# Altium schematic symbol library SchLib.SchLib: 25 symbols
Pins are listed as number, name and electrical type; pins without a type are passive.

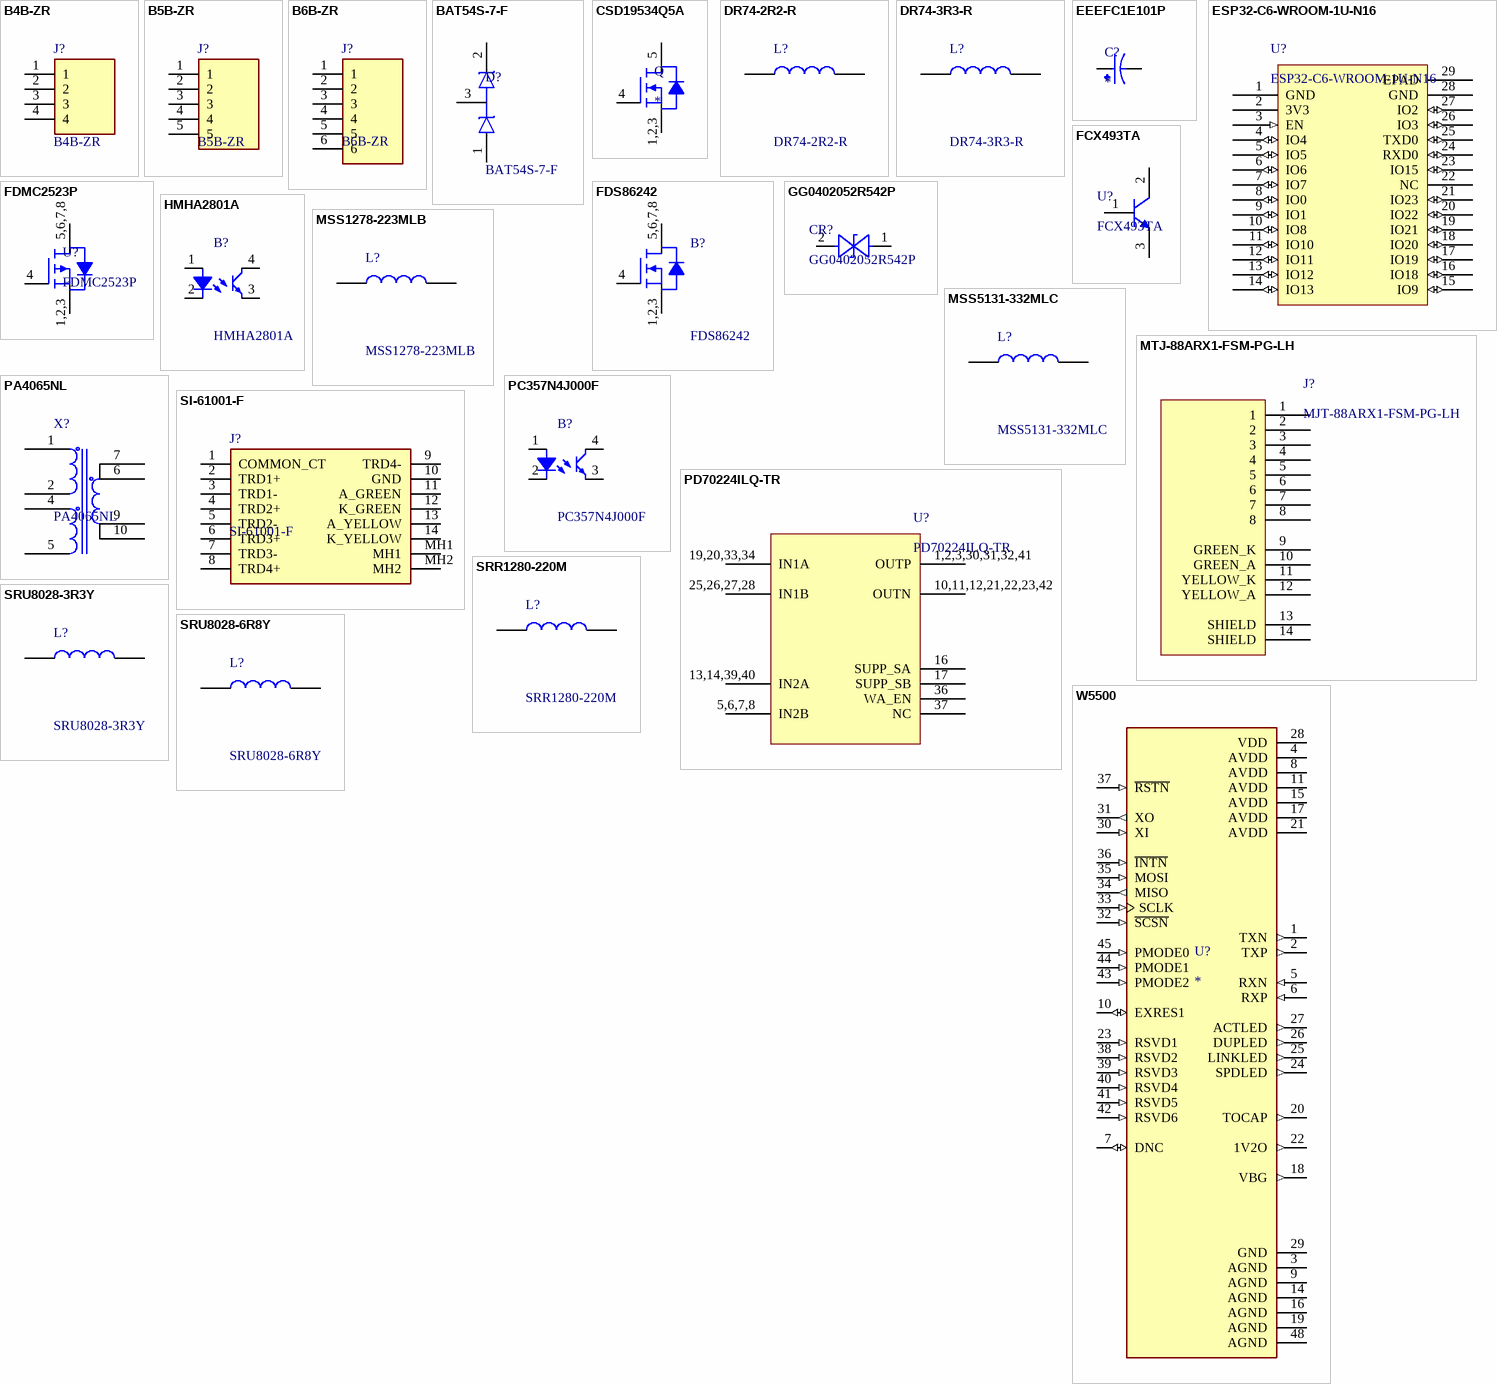
[diagram p0: symbols B4B-ZR to W5500]

## B4B-ZR
designator J?
JST (JAPAN SOLDERLESS TERMINALS) - B4B-ZR(LF)(SN) - HEADER, TOP ENTRY, 4WAY; Geometry.Height: 4.5mm; Manufacturer_Name: JST (JAPAN SOLDERLESS TERMINALS); Manufacturer_Part_Number: B4B-ZR(LF)(SN); Mouser Part Number: 306-B4B-ZRLFSN; Mouser Price/Stock: https://www.mouser.co.uk/ProductDetail/JST-Commercial/B4B-ZRLFSN?qs=QpmGXVUTftFM%252B0QwnoJl9g%3D%3D; Arrow Part Number: B4B-ZR(LF)(SN); Arrow Price/Stock: https://www.arrow.com/en/products/b4b-zr-lf-sn/jst-manufacturing?region=europe; Datasheet Link: https://datasheet.datasheetarchive.com/originals/distributors/Datasheets_SAMA/cb62f9f85e77727a538b6695add69f99.pdf; Supplier 1: DigiKey; Supplier Part Number 1: 455-1659-ND
footprint SHDR4W50P0X150_1X4_750X350X450P
pins: 1, 2, 3, 4

## B5B-ZR
designator J?
CONN HEADER VERT 5POS 1.5MM; Manufacturer_Name: JST (JAPAN SOLDERLESS TERMINALS); Manufacturer_Part_Number: B5B-ZR(LF)(SN); Geometry.Height: 4.5mm; Mouser Part Number: N/A; Mouser Price/Stock: https://www.mouser.co.uk/ProductDetail/JST-Commercial/B5B-ZRLFSN?qs=IKkN%2F947nfC1UhZj5V253g%3D%3D; Arrow Part Number: B5B-ZR(LF)(SN); Arrow Price/Stock: https://www.arrow.com/en/products/b5b-zr-lf-sn/jst-manufacturing?region=europe; Datasheet Link: https://datasheet.lcsc.com/szlcsc/JST-Sales-America-B5B-ZR-LF-SN_C157990.pdf; Supplier 1: DigiKey; Supplier Part Number 1: 455-1660-ND
footprint SHDR5W50P0X150_1X5_900X350X450P
pins: 1, 2, 3, 4, 5

## B6B-ZR
designator J?
CONN HEADER ZH TOP 6POS 1.5MM; Manufacturer_Name: JST (JAPAN SOLDERLESS TERMINALS); Geometry.Height: 4.5mm; Manufacturer_Part_Number: B6B-ZR; Mouser Part Number: N/A; Mouser Price/Stock: https://www.mouser.co.uk/ProductDetail/JST/B6B-ZR?qs=BJlw7L4Cy7%2FnnkhPIMLEpQ%3D%3D; Arrow Part Number: *; Arrow Price/Stock: *; Datasheet Link: http://www.jst-mfg.com/product/pdf/eng/eZH.pdf
footprint SHDR6W50P0X150_1X6_1050X350X450P
pins: 1, 2, 3, 4, 5, 6

## BAT54S-7-F
designator D?
Schottky Diode 2xSeries 200mA 30V SOT23 Diodes Inc BAT54S-7-F, Dual SMT Schottky Switching Diode, Series, 30V 200mA, 5ns, 3-Pin SOT-23; Manufacturer_Name: Diodes Incorporated; Geometry.Height: 1.15mm; Manufacturer_Part_Number: BAT54S-7-F; Mouser Part Number: 621-BAT54S-F; Mouser Price/Stock: https://www.mouser.co.uk/ProductDetail/Diodes-Incorporated/BAT54S-7-F?qs=SrifhsLOLf4kNGw4QqCzrA%3D%3D; Arrow Part Number: BAT54S-7-F; Arrow Price/Stock: https://www.arrow.com/en/products/bat54s-7-f/diodes-incorporated?utm_currency=USD&region=nac; Datasheet Link: https://www.diodes.com//assets/Datasheets/BAT54_A_C_S.pdf
footprint SOT96P240X115-3N
pins: 1 A, 2 K, 3 A/K

## CSD19534Q5A
designator Q
100V, N ch NexFET MOSFET, single SON5x6, 15.1mOhm 8-VSONP -55 to 150; MF: Texas Instruments; MP: CSD19534Q5A; Mouser-Purchase-URL: https://snapeda.com/shop?store=Mouser&id=485742; Package: VSONP-8 Texas Instruments; Texas_Instruments-Purchase-URL: https://snapeda.com/shop?store=Texas+Instruments&id=485742; Value: *; Price: None; DigiKey-Purchase-URL: https://snapeda.com/shop?store=DigiKey&id=485742; SnapEDA_Link: https://www.snapeda.com/parts/CSD19534Q5A/Texas%20Instruments/view-part/485742/?ref=snap; Availability: Good
footprint CSD19534Q5A
pins: 1,2,3 S, 4 G, 5 D

## DR74-2R2-R
designator L?
Fixed Inductors 2.2uH 7A 0.0126ohms; Manufacturer_Name: Eaton; Geometry.Height: 4.35mm; Manufacturer_Part_Number: DR74-2R2-R; Mouser Part Number: 704-DR74-2R2-R; Mouser Price/Stock: https://www.mouser.co.uk/ProductDetail/Eaton-Electronics/DR74-2R2-R?qs=yzwxPInThYTMNtV4%252BtE9KA%3D%3D; Arrow Part Number: DR74-2R2-R; Arrow Price/Stock: https://www.arrow.com/en/products/dr74-2r2-r/eaton; Datasheet Link: https://componentsearchengine.com/Datasheets/1/DR74-2R2-R.pdf; Supplier 1: TME; Supplier Part Number 1: DR74-2R2-R
footprint INDPM7676X435N
pins: 1, 2

## DR74-3R3-R
designator L?
EATON COILTRONICS - DR74-3R3-R - Power Inductor (SMD), 3.3 H, 3.94 A, Shielded, 5.4 A, DR Series, 7.6mm x 7.6mm x 4.35mm; Manufacturer_Name: Eaton; Manufacturer_Part_Number: DR74-3R3-R; Mouser Part Number: 704-DR74-3R3-R; Mouser Price/Stock: https://www.mouser.co.uk/ProductDetail/Bussmann-Eaton/DR74-3R3-R?qs=yzwxPInThYRgV9ebcXY7Bg%3D%3D; Arrow Part Number: DR74-3R3-R; Arrow Price/Stock: https://www.arrow.com/en/products/dr74-3r3-r/eaton?region=nac; Datasheet Link: https://ms.componentsearchengine.com/Datasheets/2/DR74-3R3-R.pdf; Geometry.Height: 4.35mm; Supplier 1: TME; Supplier Part Number 1: DR74-3R3-R
footprint INDPM7676X435N
pins: 1, 2

## EEEFC1E101P
designator C?
Capacitor,Alum Electrolytic,Cap 100 uF,Tol 20%,Vol-Rtg 25 VDC,SMT,8x10.2,TR | Panasonic Electronic Components EEE-FC1E101P; SnapEDA_Link: https://www.snapeda.com/parts/EEE-FC1E101P/Panasonic+Electronic+Components/view-part/?ref=snap; Package: RADIAL-2 Panasonic; Value: *; MF: Panasonic; MP: EEE-FC1E101P; Check_prices: https://www.snapeda.com/parts/EEE-FC1E101P/Panasonic+Electronic+Components/view-part/?ref=eda
footprint CAP_EEEFC1E101P
pins: 1, 2

## ESP32-C6-WROOM-1U-N16
designator U?
Supplier 1: TME; Supplier Part Number 1: ESP32C6-WROOM1UN16
footprint ESP32-C6-WROOM-1U
pins: 1 GND, 2 3V3, 3 EN (in), 4 IO4 (io), 5 IO5 (io), 6 IO6 (io), 7 IO7 (io), 8 IO0 (io), 9 IO1 (io), 10 IO8 (io), 11 IO10 (io), 12 IO11 (io), 13 IO12 (io), 14 IO13 (io), 15 IO9 (io), 16 IO18 (io), 17 IO19 (io), 18 IO20 (io), 19 IO21 (io), 20 IO22 (io), 21 IO23 (io), 22 NC, 23 IO15 (io), 24 RXD0 (io), 25 TXD0 (io), 26 IO3 (io), 27 IO2 (io), 28 GND, 29 EPAD

## FCX493TA
designator U?
Description; Manufacturer_Name: Diodes Inc; Copyright: Copyright (C) 2025 Ultra Librarian. All rights reserved.; Manufacturer_Part_Number: FCX493TA; RefDes: RefDes; Type: Type
footprint FCX493TA_DIO
pins: 1 B, 2 C, 3 E

## FDMC2523P
designator U?
P-Channel 150 V 3A (Tc) 42W (Tc) Surface Mount 8-MLP (3.3x3.3); Manufacturer_Name: onsemi; Copyright: Copyright (C) 2025 Ultra Librarian. All rights reserved.; Manufacturer_Part_Number: FDMC2523P; RefDes: RefDes; Type: Type
footprint FDMC_2523P_ONS
pins: 1,2,3 S, 4 G, 5,6,7,8 D

## FDS86242
designator B?
100% UIL Tested; Max rDS(on) = 67 m at VGS = 10 V, ID = 4.1 A; High performance trench technology for extremely low rDS(on); Max rDS(on) = 98m at VGS = 6 V, ID = 3.3 A; RoHS Compliant; High power and current handling capability in a widely usedsurface mount package; Manufacturer_Name: onsemi; Geometry.Height: 1.75mm; Manufacturer_Part_Number: FDS86242; Mouser Part Number: 512-FDS86242; Mouser Price/Stock: https://www.mouser.co.uk/ProductDetail/ON-Semiconductor-Fairchild/FDS86242?qs=WZYOKEqGBpJo60pi1Jf2hA%3D%3D; Arrow Part Number: FDS86242; Arrow Price/Stock: https://www.arrow.com/en/products/fds86242/on-semiconductor; Datasheet Link: https://www.onsemi.com/pub/Collateral/FDS86242-D.PDF
footprint SOIC127P600X175-8N
pins: 1,2,3 S, 4 G, 5,6,7,8 D

## GG0402052R542P
designator CR?
Description; Manufacturer_Name: KYOCERA AVX; Copyright: Copyright (C) 2025 Ultra Librarian. All rights reserved.; Manufacturer_Part_Number: GG0402052R542P
footprint TVS_GG0402_KAV
pins: 1 ANODECATHODE, 2 CATHODEANODE

## HMHA2801A
designator B?
Optoisolator Transistor Output 3750Vrms 1 Channel 4-Mini-Flat; Manufacturer_Name: onsemi; Geometry.Height: 2.39mm; Manufacturer_Part_Number: HMHA2801A; Mouser Part Number: 512-HMHA2801A; Mouser Price/Stock: https://www.mouser.co.uk/ProductDetail/onsemi-Fairchild/HMHA2801A?qs=kFka3UPfw%2Fr%2FqIBcKba8Jg%3D%3D; Arrow Part Number: HMHA2801A; Arrow Price/Stock: https://www.arrow.com/en/products/hmha2801a/on-semiconductor?utm_currency=USD&region=nac; Datasheet Link: https://www.digikey.ph/en/products/detail/onsemi/HMHA2801A/1052178
footprint SOIC127P680X239-4N
pins: 1, 2, 3, 4

## MSS1278-223MLB
designator L?
Fixed Inductors MSS1278 AEC-Q200 22 uH 20% 4A Ferrite; Manufacturer_Name: COILCRAFT; Geometry.Height: 8.05mm; Manufacturer_Part_Number: MSS1278-223MLB; Mouser Part Number: 994-MSS1278-223MLB; Mouser Price/Stock: https://www.mouser.co.uk/ProductDetail/Coilcraft/MSS1278-223MLB?qs=VJjuEbE9QBPONvxxp7IxZg%3D%3D; Arrow Part Number: *; Arrow Price/Stock: *; Datasheet Link: https://www.coilcraft.com/pdfs/mss1278.pdf
footprint INDPM120120X805N
pins: 1, 2

## MSS5131-332MLC
designator L?
Fixed Inductors 33uH Shld 20% 2.9A 28mOhms AECQ2; Manufacturer_Name: COILCRAFT; Geometry.Height: 3.1mm; Manufacturer_Part_Number: MSS5131-332MLC; Mouser Part Number: 994-MSS5131-332MLC; Mouser Price/Stock: https://www.mouser.co.uk/ProductDetail/Coilcraft/MSS5131-332MLC?qs=zCSbvcPd3pZLAvWDDWFtVA%3D%3D; Arrow Part Number: *; Arrow Price/Stock: *; Datasheet Link: https://componentsearchengine.com/Datasheets/1/MSS5131-332MLC.pdf
footprint MSS5131332MLC
pins: 1, 2

## MTJ-88ARX1-FSM-PG-LH
designator J?, comment MJT-88ARX1-FSM-PG-LH
Supplier 1: TME; Supplier Part Number 1: MTJ88ARX1FSMPGLH
footprint MTJ88ARX1FSMPGLG
pins: 1, 2, 3, 4, 5, 6, 7, 8, 9 GREEN_K, 10 GREEN_A, 11 YELLOW_K, 12 YELLOW_A, 13 SHIELD, 14 SHIELD

## PA4065NL
designator X?
Switching Transformer 1.58:1:1 0.075Ohm/0.41Ohm Prim. DCR 0.04Ohm Sec. DCR 10Term. Gull Wing SMD; Manufacturer_Name: PULSE; Geometry.Height: 12.32mm; Manufacturer_Part_Number: PA4065NL; Mouser Part Number: N/A; Mouser Price/Stock: https://www.mouser.com/Search/Refine.aspx?Keyword=N%2FA; Arrow Part Number: PA4065NL; Arrow Price/Stock: https://www.arrow.com/en/products/pa4065nl/pulse-electronics-corporation; Datasheet Link: https://www.mouser.de/datasheet/2/447/P675-2903965.pdf
footprint PA4065NL
pins: 1, 2, 4, 5, 6, 7, 9, 10

## PC357N4J000F
designator B?
Transistor Output Optocouplers 300-600% CTR ranked PC357NJ0000F; Manufacturer_Name: Sharp Microelectronics; Geometry.Height: 3mm; Manufacturer_Part_Number: PC357N4J000F; Mouser Part Number: 852-PC357N4J000F; Mouser Price/Stock: https://www.mouser.co.uk/ProductDetail/Sharp-Microelectronics/PC357N4J000F?qs=UtH%252B%2FzslHwoprMr%2FFF3%252BjA%3D%3D; Arrow Part Number: PC357N4J000F; Arrow Price/Stock: https://www.arrow.com/en/products/pc357n4j000f/sharp?utm_currency=USD&region=europe; Datasheet Link: https://datasheet.datasheetarchive.com/originals/distributors/Datasheets_SAMA/8df7351162fb494e02ad9abf95b0d019.pdf
footprint SOP254P675X300-4N
pins: 1, 2, 3, 4

## PD70224ILQ-TR
designator U?
Supplier 1: TME; Supplier Part Number 1: PD70224ILQ-TR
footprint PD70224ILQTR
pins: 1,2,3,30,31,32,41 OUTP, 5,6,7,8 IN2B, 10,11,12,21,22,23,42 OUTN, 13,14,39,40 IN2A, 16 SUPP_SA, 17 SUPP_SB, 19,20,33,34 IN1A, 25,26,27,28 IN1B, 36 WA_EN, 37 NC

## SI-61001-F
designator J?
Modular Connectors / Ethernet Connectors RJ45 Connector; Manufacturer_Name: Bel; Geometry.Height: 15.21mm; Manufacturer_Part_Number: SI-61001-F; Mouser Part Number: 530-SI-61001-F; Mouser Price/Stock: *; Arrow Part Number: *; Arrow Price/Stock: *; Datasheet Link: https://www.belfuse.com/resources/drawings/magneticsolutions/dr-mag-si-61001-f.pdf
footprint SI61001F
pins: 1 COMMON_CT, 2 TRD1+, 3 TRD1-, 4 TRD2+, 5 TRD2-, 6 TRD3+, 7 TRD3-, 8 TRD4+, 9 TRD4-, 10 GND, 11 A_GREEN, 12 K_GREEN, 13 A_YELLOW, 14 K_YELLOW, MH1, MH2

## SRR1280-220M
designator L?
Power inductor SMD shielded 22uH Bourns SRR1280 Series Shielded Wire-wound SMD Inductor with a Ferrite Core, 22 uH +/-20% 4.3A Idc Q:20; Geometry.Height: 8mm; Manufacturer_Name: Bourns; Manufacturer_Part_Number: SRR1280-220M; Mouser Part Number: 652-SRR1280-220M; Mouser Price/Stock: https://www.mouser.co.uk/ProductDetail/Bourns/SRR1280-220M?qs=brMhP%2FMjUfflRvtsE3Ok8w%3D%3D; Arrow Part Number: SRR1280-220M; Arrow Price/Stock: https://www.arrow.com/en/products/srr1280-220m/bourns?region=europe; Datasheet Link: https://www.bourns.com/docs/Product-Datasheets/SRR1280.pdf; Supplier 1: DigiKey; Supplier Part Number 1: SRR1280-220MCT-ND; Supplier 2: Mouser; Supplier Part Number 2: 652-SRR1280-220M; Supplier 3: Arrow Electronics; Supplier Part Number 3: SRR1280-220M
footprint SRR1280220M
pins: 1, 2

## SRU8028-3R3Y
designator L?
Fixed Inductors 3.3uH 30% SMD 8028; Manufacturer_Name: Bourns; Geometry.Height: 3.1mm; Manufacturer_Part_Number: SRU8028-3R3Y; Mouser Part Number: 652-SRU8028-3R3Y; Mouser Price/Stock: https://www.mouser.co.uk/ProductDetail/Bourns/SRU8028-6R8Y?qs=3fQS%252B%2FKBkgz4upOBBdUIOQ%3D%3D; Arrow Part Number: SRU8028-3R3Y; Arrow Price/Stock: https://www.arrow.com/en/products/sru8028-6r8y/bourns?region=nac; Datasheet Link: http://www.bourns.com/docs/Product-Datasheets/SRU8028.pdf; Supplier 1: DigiKey; Supplier Part Number 1: SRU8028-3R3YCT-ND; Supplier 2: Mouser; Supplier Part Number 2: 652-SRU8028-3R3Y; Supplier 3: Arrow Electronics; Supplier Part Number 3: SRU8028-3R3Y
footprint SRU8028
pins: 1, 2

## SRU8028-6R8Y
designator L?
Fixed Inductors 6.8uH 30% SMD 8028; Manufacturer_Name: Bourns; Geometry.Height: 3.1mm; Manufacturer_Part_Number: SRU8028-6R8Y; Mouser Part Number: 652-SRU8028-6R8Y; Mouser Price/Stock: https://www.mouser.co.uk/ProductDetail/Bourns/SRU8028-6R8Y?qs=3fQS%252B%2FKBkgz4upOBBdUIOQ%3D%3D; Arrow Part Number: SRU8028-6R8Y; Arrow Price/Stock: https://www.arrow.com/en/products/sru8028-6r8y/bourns?region=nac; Datasheet Link: http://www.bourns.com/docs/Product-Datasheets/SRU8028.pdf; Supplier 1: DigiKey; Supplier Part Number 1: 118-SRU8028-6R8YCT-ND; Supplier 2: Arrow Electronics; Supplier Part Number 2: SRU8028-6R8Y
footprint SRU8028
pins: 1, 2

## W5500
designator U?
Hardwired TCP/IP embedded Ethernet controller; MP: W5500; Availability: Unavailable; Value: *; Price: None; Package: None
footprint LQFP-48N
pins: 1 TXN (out), 2 TXP (out), 3 AGND (power), 4 AVDD (power), 5 RXN (in), 6 RXP (in), 7 DNC (io), 8 AVDD (power), 9 AGND (power), 10 EXRES1 (io), 11 AVDD (power), 14 AGND (power), 15 AVDD (power), 16 AGND (power), 17 AVDD (power), 18 VBG (out), 19 AGND (power), 20 TOCAP (out), 21 AVDD (power), 22 1V2O (out), 23 RSVD1 (in), 24 SPDLED (out), 25 LINKLED (out), 26 DUPLED (out), 27 ACTLED (out), 28 VDD (power), 29 GND, 30 XI (in), 31 XO (out), 32 ~{SCSN} (in), 33 SCLK (in), 34 MISO (out), 35 MOSI (in), 36 ~{INTN} (in), 37 ~{RSTN} (in), 38 RSVD2 (in), 39 RSVD3 (in), 40 RSVD4 (in), 41 RSVD5 (in), 42 RSVD6 (in), 43 PMODE2 (in), 44 PMODE1 (in), 45 PMODE0 (in), 48 AGND (power)